# Altium footprint library max6070.PCBLIB: 1 footprints
Each footprint in its own frame and in the unit in brackets; x right, y up, seen from the top. Pads: shape width x height; smd on the part's side, far side on the other; paste and mask are expansions set on the pad; w line width, h text height; cw(c..) or ccw(c..) is an arc to the next point about the centre after c.
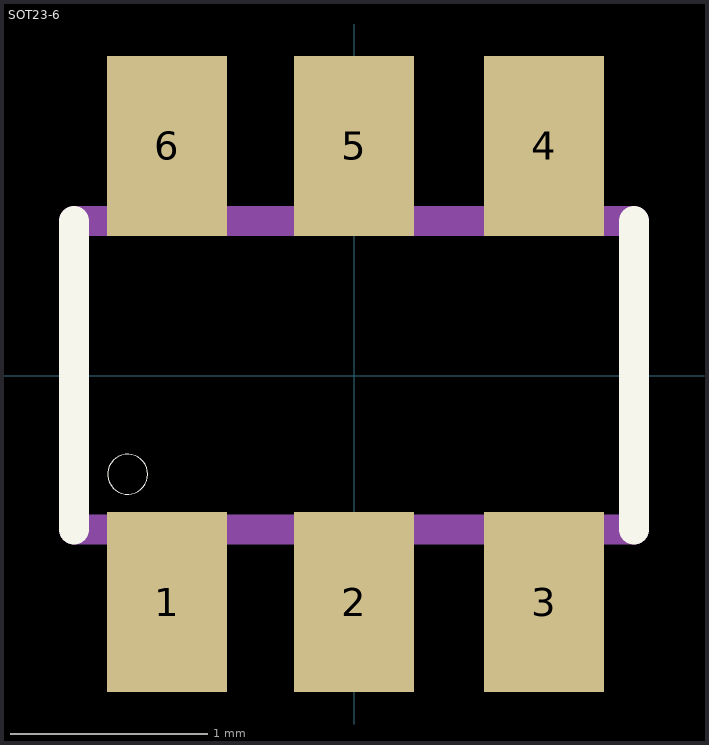
[diagram p0: the footprint, top view; thin cyan lines are the x and y axes]

## SOT23-6 [mil]
pads (6):
  rect 24x36 smd: 1(-37.4,-45.28) 2(0,-45.28) 3(38,-45.28) 4(38,46) 5(0,46) 6(-37.4,46)
Top Overlay:
  circle w0: c-45.28,-19.68 r4
  lines w6: -56.02,-30.75 -56.02,31 ; 56,-30.75 56,31
Mechanical 16:
  rectangle: -47.24,-55.12 -27.56,-31.5
  rectangle: -9.84,-55.12 10,-31.5
  rectangle: 28,-55.12 48,-31.5
  rectangle: 28,32 48,56
  rectangle: -9.84,32 10,56
  rectangle: -47.24,32 -27.56,56
  lines w6: -56.02,-30.75 56,-30.75 ; -56.02,31 56,31